# Altium footprint library PcbLib.PcbLib: 38 footprints (part 2 of 3)
Each footprint in its own frame and in the unit in brackets; x right, y up, seen from the top. Pads: shape width x height; smd on the part's side, far side on the other; paste and mask are expansions set on the pad; w line width, h text height; cw(c..) or ccw(c..) is an arc to the next point about the centre after c.
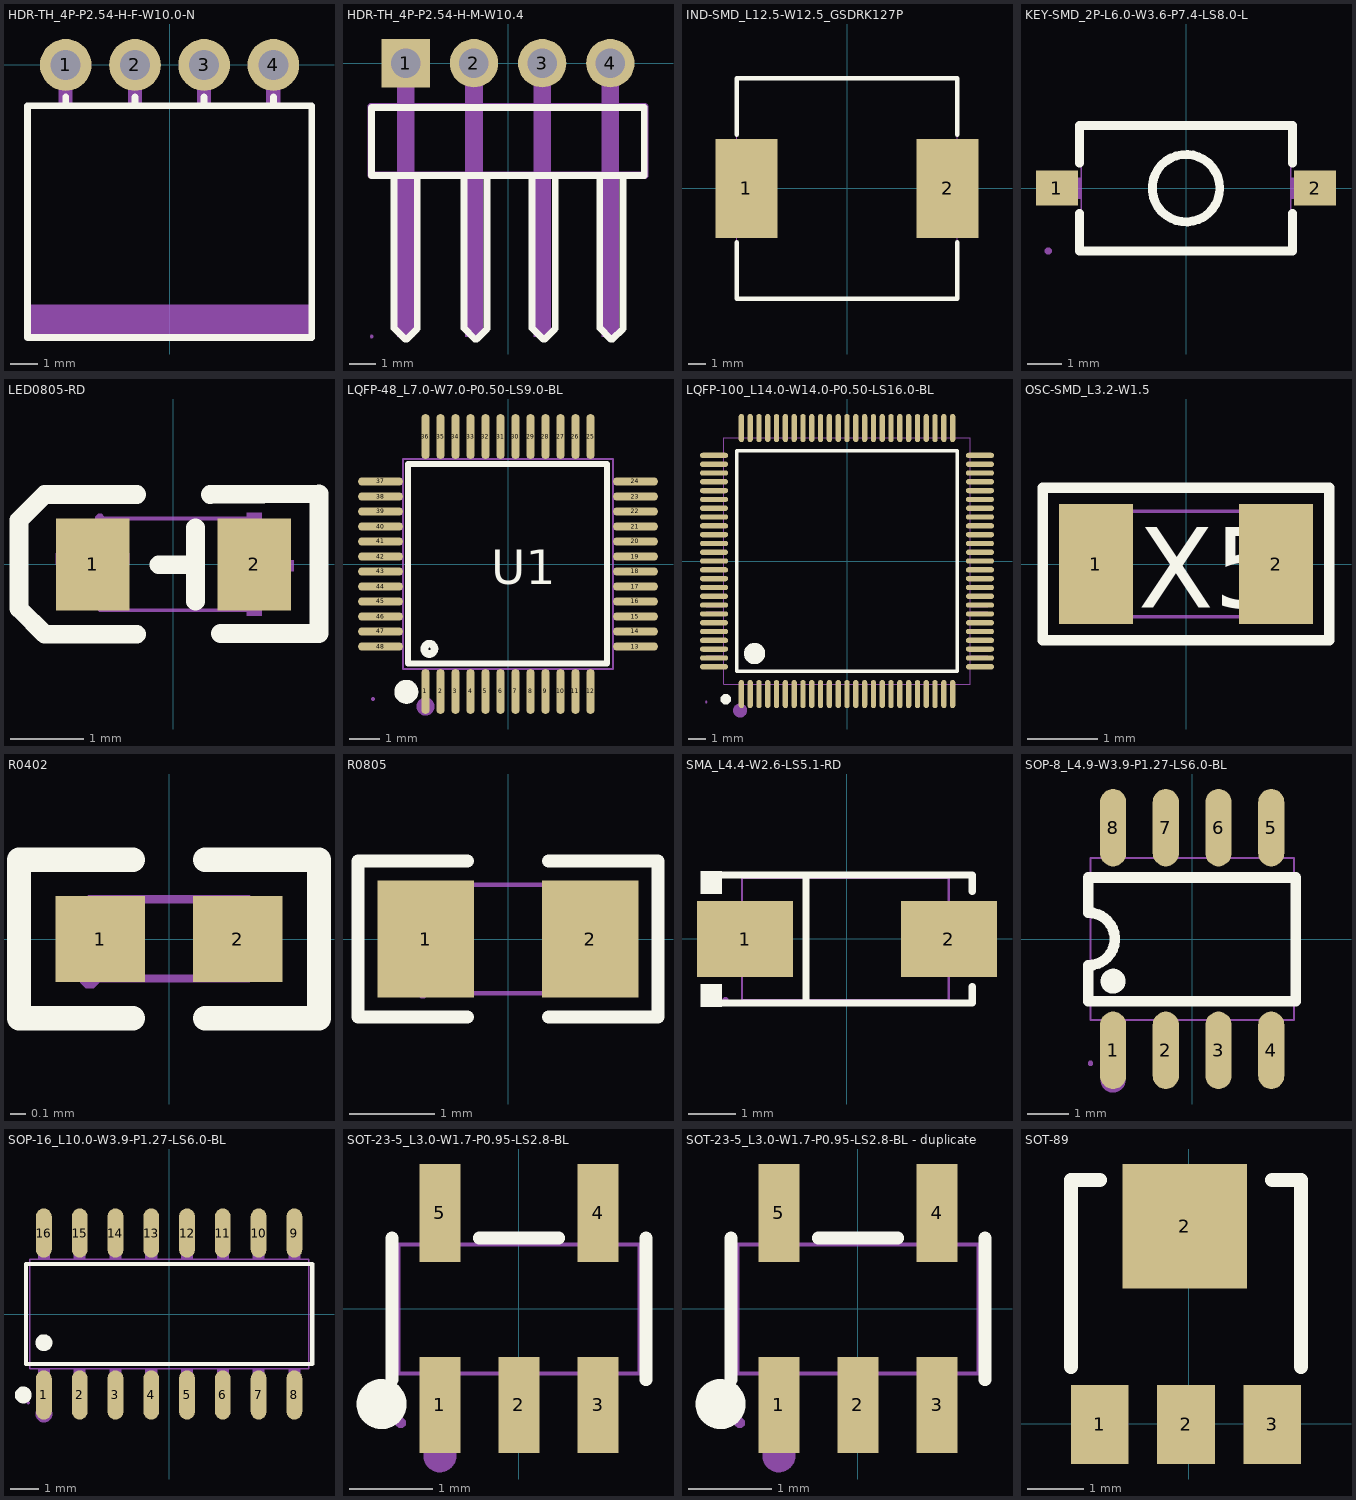
[diagram p1: the footprints below, top view; thin cyan lines are the x and y axes]

## HDR-TH_4P-P2.54-H-F-W10.0-N [mm]
pads (4):
  round 1.9 hole 1.1 paste+0 mask+0.05: 1(-3.81,0) 2(-1.27,0) 3(1.27,0) 4(3.81,0)
Top Overlay:
  lines w0.254: -3.81,-1.5 -3.81,-1.181 ; -1.27,-1.5 -1.27,-1.181 ; 1.27,-1.5 1.27,-1.181 ; 3.81,-1.5 3.81,-1.181 ; -5.22,-10 5.22,-10 5.22,-1.5 -5.22,-1.5 -5.22,-10
Mechanical 6:
  region: -5.3,-8.8 5.3,-8.8 5.3,-10 -5.3,-10 -5.3,-9.4
Mechanical 15:
  region: -5.22,-10 -5.22,-9.975 -5.255,-9.94 -5.305,-9.94 -5.34,-9.975 -5.34,-10 -5.34,-10.025 -5.305,-10.06 -5.255,-10.06 -5.22,-10.025 -5.22,-10
  region: 3.56,0.25 4.06,0.25 4.06,-0.25 3.56,-0.25
  region: 1.02,0.25 1.52,0.25 1.52,-0.25 1.02,-0.25
  region: -1.52,0.25 -1.02,0.25 -1.02,-0.25 -1.52,-0.25
  region: -4.06,0.25 -3.56,0.25 -3.56,-0.25 -4.06,-0.25
  region: -4.062,-1.555 -4.062,0.245 -3.562,0.245 -3.562,-1.555
  region: -1.522,-1.555 -1.522,0.245 -1.022,0.245 -1.022,-1.555
  region: 1.018,-1.555 1.018,0.245 1.518,0.245 1.518,-1.555
  region: 3.558,-1.555 3.558,0.245 4.058,0.245 4.058,-1.555
  lines w0.051: -5.28,-10 -5.28,-1.5 5.28,-1.5 5.28,-10 -5.28,-10

## HDR-TH_4P-P2.54-H-M-W10.4 [mm]
pads (4):
  rect 1.8x1.8 hole 1.1: 1(-3.81,0)
  round 1.8 hole 1.1: 2(-1.27,0) 3(1.27,0) 4(3.81,0)
Top Overlay:
  lines w0.254: -5.09,-1.699 -5.09,-4.181 5.07,-4.181 5.07,-1.651 -5.09,-1.651 ; -3.84,-10.273 -4.244,-9.869 ; -3.764,-10.273 -3.383,-9.892 ; -1.644,-4.273 -1.644,-9.869 -1.24,-10.273 ; -1.164,-10.273 -0.783,-9.892 -0.783,-4.273 ; 1.299,-10.273 0.895,-9.869 ; 1.375,-10.273 1.756,-9.892 ; 3.417,-4.273 3.417,-9.869 3.821,-10.273 ; 3.897,-10.273 4.278,-9.892 4.278,-4.273 ; -4.244,-9.869 -4.244,-4.273 -4.244,-9.869 ; -3.383,-9.892 -3.383,-4.273 -3.383,-9.892 ; 0.895,-9.869 0.895,-4.273 0.895,-9.869 ; 1.756,-9.892 1.756,-4.273 1.756,-9.892
Mechanical 6:
  region: -4.973,-1.63 -4.973,-4.053 5.1,-4.053 5.153,-4.053 5.227,-4.127 5.227,-4.233 5.153,-4.307 5.1,-4.307 -5.1,-4.307 -5.125,-4.307 -5.172,-4.288 -5.208,-4.252 -5.227,-4.205 -5.227,-4.18 -5.227,-1.63 -5.227,-1.577 -5.153,-1.503 -5.047,-1.503 -4.973,-1.577 -4.973,-1.63
  region: 4.969,-4.177 4.969,-1.754 -5.104,-1.754 -5.156,-1.754 -5.231,-1.68 -5.231,-1.574 -5.156,-1.5 -5.104,-1.5 5.096,-1.5 5.122,-1.5 5.168,-1.519 5.204,-1.555 5.223,-1.602 5.223,-1.627 5.223,-4.177 5.223,-4.23 5.149,-4.304 5.044,-4.304 4.969,-4.23 4.969,-4.177
Mechanical 15:
  region: -5.02,-10.18 -5.02,-10.155 -5.055,-10.12 -5.105,-10.12 -5.14,-10.155 -5.14,-10.18 -5.14,-10.205 -5.105,-10.24 -5.055,-10.24 -5.02,-10.205 -5.02,-10.18
  region: -4.13,0.32 -3.49,0.32 -3.49,-0.32 -4.13,-0.32
  region: -1.59,0.32 -0.95,0.32 -0.95,-0.32 -1.59,-0.32
  region: 0.95,0.32 1.59,0.32 1.59,-0.32 0.95,-0.32
  region: 3.49,0.32 4.13,0.32 4.13,-0.32 3.49,-0.32
  region: 3.49,0.32 3.49,-10.18 4.13,-10.18 4.13,0.32
  region: 0.95,0.32 0.95,-10.18 1.59,-10.18 1.59,0.32
  region: -1.59,0.32 -1.59,-10.18 -0.95,-10.18 -0.95,0.32
  region: -4.13,0.32 -4.13,-10.18 -3.49,-10.18 -3.49,0.32
  lines w0.051: -5.08,-4.18 5.08,-4.18 5.08,-1.64 -5.08,-1.64 -5.08,-4.18

## IND-SMD_L12.5-W12.5_GSDRK127P [mm]
pads (2):
  rect 3.5x5.6 smd: 1(-5.687,0) 2(5.687,0)
Top Overlay:
  lines w0.254: -6.25,-3.031 -6.25,-6.25 6.25,-6.25 6.25,-3.031 ; -6.25,3.031 -6.25,6.25 6.25,6.25 ; 6.25,3.031 6.25,6.25 ; 6.25,6.25 6.25,6.25
Mechanical 15:
  region: 4.25,2.5 6.25,2.5 6.25,-2.5 4.25,-2.5
  region: -6.25,2.5 -4.25,2.5 -4.25,-2.5 -6.25,-2.5
  region: -6.19,-6.25 -6.19,-6.225 -6.225,-6.19 -6.275,-6.19 -6.31,-6.225 -6.31,-6.25 -6.31,-6.275 -6.275,-6.31 -6.225,-6.31 -6.19,-6.275 -6.19,-6.25
  lines w0.051: -6.25,-6.25 6.25,-6.25 6.25,6.25 -6.25,6.25 -6.25,-6.25

## KEY-SMD_2P-L6.0-W3.6-P7.4-LS8.0-L [mm]
pads (2):
  rect 1.2x1 smd: 1(-3.7,0) 2(3.7,0)
Top Overlay:
  circle w0.254: c0,0 r0.967
  lines w0.254: -3.048,-0.725 -3.048,-1.8 0,-1.8 3.048,-1.8 3.048,-0.725 ; -3.048,0.725 -3.048,1.8 0,1.8 3.048,1.8 3.048,0.725
Mechanical 15:
  region: -4,-0.3 -4,0.3 -3.5,0.3 -3.5,-0.3
  region: -3.51,-0.3 -3.51,0.3 -2.99,0.3 -2.99,-0.3
  region: 3.5,-0.3 3.5,0.3 4,0.3 4,-0.3
  region: 2.99,-0.3 2.99,0.3 3.51,0.3 3.51,-0.3
  region: -3.85,-1.8 -3.851,-1.759 -3.909,-1.702 -3.991,-1.702 -4.049,-1.759 -4.05,-1.8 -4.049,-1.841 -3.991,-1.898 -3.909,-1.898 -3.851,-1.841 -3.85,-1.8
  lines w0.051: -3,-1.85 3,-1.85 3,1.85 -3,1.85 -3,-1.85

## LED0805-RD [mm]
pads (2):
  rect 1x1.25 smd paste+0 mask+0.051: 1(-1.1,0) 2(1.1,0)
Top Overlay:
  lines w0.254: -0.5,-0.95 -1.75,-0.95 ; -0.5,0.95 -1.75,0.95 ; -0.2,-0.005 0.3,-0.005 ; 0.3,-0.5 0.3,0.5 ; 0.5,0.95 1.98,0.96 1.98,-0.94 0.64,-0.94 ; -1.75,-0.95 -1.75,-0.95 ; -1.75,-0.95 -2.1,-0.6 -2.1,0.6 -1.75,0.95 ; -1.75,0.95 -1.75,0.95
Mechanical 6:
  region: 1,0.7 1.2,0.7 1.2,-0.7 1,-0.7
  region: 0.635,-0.094 1.635,-0.094 1.635,0.056 0.635,0.056
  region: -1.6,0 -0.6,0 -0.6,0.15 -1.6,0.15
Mechanical 15:
  region: -0.94,0.625 -0.94,0.65 -0.975,0.685 -1.025,0.685 -1.06,0.65 -1.06,0.625 -1.06,0.6 -1.025,0.565 -0.975,0.565 -0.94,0.6 -0.94,0.625
  region: 1,-0.625 0.65,-0.625 0.65,0.625 1,0.625
  region: -0.65,-0.625 -1,-0.625 -1,0.625 -0.65,0.625
  lines w0.051: -1,-0.625 -1,0.625 1,0.625 1,-0.625 -1,-0.625

## LQFP-48_L7.0-W7.0-P0.50-LS9.0-BL [mm]
pads (48):
  oval 0.27x1.5 smd paste+0 mask+0.05: 1(-2.75,-4.25) 2(-2.25,-4.25) 3(-1.75,-4.25) 4(-1.25,-4.25) 5(-0.75,-4.25) 6(-0.25,-4.25) 7(0.25,-4.25) 8(0.75,-4.25) 9(1.25,-4.25) 10(1.75,-4.25) 11(2.25,-4.25) 12(2.75,-4.25) 25(2.75,4.25) 26(2.25,4.25) 27(1.75,4.25) 28(1.25,4.25) 29(0.75,4.25) 30(0.25,4.25) 31(-0.25,4.25) 32(-0.75,4.25) 33(-1.25,4.25) 34(-1.75,4.25) 35(-2.25,4.25) 36(-2.75,4.25)
  oval 1.5x0.27 smd paste+0 mask+0.05: 13(4.25,-2.75) 14(4.25,-2.25) 15(4.25,-1.75) 16(4.25,-1.25) 17(4.25,-0.75) 18(4.25,-0.25) 19(4.25,0.25) 20(4.25,0.75) 21(4.25,1.25) 22(4.25,1.75) 23(4.25,2.25) 24(4.25,2.75) 37(-4.25,2.75) 38(-4.25,2.25) 39(-4.25,1.75) 40(-4.25,1.25) 41(-4.25,0.75) 42(-4.25,0.25) 43(-4.25,-0.25) 44(-4.25,-0.75) 45(-4.25,-1.25) 46(-4.25,-1.75) 47(-4.25,-2.25) 48(-4.25,-2.75)
Top Overlay:
  circle w0.254: c-2.62,-2.83 r0.17
  lines w0.2: -2.896,3.34 3.302,3.34 3.302,-3.315 -3.327,-3.315 -3.327,3.34 -2.565,3.34
  lines w0.4: -3.39,-4.06 ccw(c-3.389,-4.26) -3.387,-4.06
  text "U1" at -0.552,-0.673 h1.14
Mechanical 6:
  circle w0.3: c-2.75,-4.75 r0.15
Mechanical 15:
  drawing of 101 lines, arcs and shapes, not listed

## LQFP-100_L14.0-W14.0-P0.50-LS16.0-BL [mm]
pads (100):
  oval 0.3x1.6 smd paste-100 mask+0.051: 1(-6,-7.55) 2(-5.5,-7.55) 3(-5,-7.55) 4(-4.5,-7.55) 5(-4,-7.55) 6(-3.5,-7.55) 7(-3,-7.55) 8(-2.5,-7.55) 9(-2,-7.55) 10(-1.5,-7.55) 11(-1,-7.55) 12(-0.5,-7.55) 13(0,-7.55) 14(0.5,-7.55) 15(1,-7.55) 16(1.5,-7.55) 17(2,-7.55) 18(2.5,-7.55) 19(3,-7.55) 20(3.5,-7.55) 21(4,-7.55) 22(4.5,-7.55) 23(5,-7.55) 24(5.5,-7.55) 25(6,-7.55) 51(6,7.55) 52(5.5,7.55) 53(5,7.55) 54(4.5,7.55) 55(4,7.55) 56(3.5,7.55) 57(3,7.55) 58(2.5,7.55) 59(2,7.55) 60(1.5,7.55) 61(1,7.55) 62(0.5,7.55) 63(0,7.55) 64(-0.5,7.55) 65(-1,7.55) 66(-1.5,7.55) 67(-2,7.55) 68(-2.5,7.55) 69(-3,7.55) 70(-3.5,7.55) 71(-4,7.55) 72(-4.5,7.55) 73(-5,7.55) 74(-5.5,7.55) 75(-6,7.55)
  oval 1.6x0.3 smd paste-100 mask+0.051: 26(7.55,-6) 27(7.55,-5.5) 28(7.55,-5) 29(7.55,-4.5) 30(7.55,-4) 31(7.55,-3.5) 32(7.55,-3) 33(7.55,-2.5) 34(7.55,-2) 35(7.55,-1.5) 36(7.55,-1) 37(7.55,-0.5) 38(7.55,0) 39(7.55,0.5) 40(7.55,1) 41(7.55,1.5) 42(7.55,2) 43(7.55,2.5) 44(7.55,3) 45(7.55,3.5) 46(7.55,4) 47(7.55,4.5) 48(7.55,5) 49(7.55,5.5) 50(7.55,6) 76(-7.55,6) 77(-7.55,5.5) 78(-7.55,5) 79(-7.55,4.5) 80(-7.55,4) 81(-7.55,3.5) 82(-7.55,3) 83(-7.55,2.5) 84(-7.55,2) 85(-7.55,1.5) 86(-7.55,1) 87(-7.55,0.5) 88(-7.55,0) 89(-7.55,-0.5) 90(-7.55,-1) 91(-7.55,-1.5) 92(-7.55,-2) 93(-7.55,-2.5) 94(-7.55,-3) 95(-7.55,-3.5) 96(-7.55,-4) 97(-7.55,-4.5) 98(-7.55,-5) 99(-7.55,-5.5) 100(-7.55,-6)
Top Overlay:
  lines w0.2: -6.25,-6.25 -6.25,6.25 6.25,6.25 6.25,-6.25 -6.25,-6.25
  lines w0.3: -6.883,-7.696 ccw(c-6.882,-7.846) -6.881,-7.696
  lines w0.6: -5.25,-4.95 ccw(c-5.248,-5.25) -5.245,-4.95
Top Paste:
  drawing of 100 lines, arcs and shapes, not listed
Mechanical 6:
  circle w0.4: c-6.071,-8.484 r0.2
Mechanical 15:
  drawing of 205 lines, arcs and shapes, not listed

## OSC-SMD_L3.2-W1.5 [mm]
pads (2):
  rect 1.05x1.7 smd: 1(-1.275,0) 2(1.275,0)
Top Overlay:
  lines w0.152: -2.029,-1.079 2.029,-1.079 2.029,1.079 -2.029,1.079 -2.029,-1.079
  text "X5" at -0.676,-0.622 h1.14
Mechanical 15:
  region: 0.85,-0.75 0.85,0.75 1.5,0.75 1.5,-0.75
  region: -0.85,-0.75 -0.85,0.75 -1.5,0.75 -1.5,-0.75
  region: -1.6,-0.81 -1.575,-0.81 -1.541,-0.775 -1.541,-0.726 -1.575,-0.691 -1.6,-0.69 -1.624,-0.691 -1.659,-0.726 -1.659,-0.775 -1.624,-0.81 -1.6,-0.81
  lines w0.051: -1.6,-0.75 1.6,-0.75 1.6,0.75 -1.6,0.75 -1.6,-0.75

## R0402 [mm]
pads (2):
  rect 0.566x0.54 smd paste-100 mask+0.051: 1(-0.433,0) 2(0.433,0)
Top Overlay:
  lines w0.152: -0.226,-0.499 -0.944,-0.499 -0.944,0.499 -0.226,0.499 ; 0.226,-0.499 0.944,-0.499 0.944,0.499 0.226,0.499
Top Paste:
  region: -0.135,-0.23 -0.135,0.23 -0.175,0.27 -0.676,0.27 -0.716,0.23 -0.716,-0.23 -0.676,-0.27 -0.175,-0.27
  region: 0.135,-0.23 0.135,0.23 0.175,0.27 0.676,0.27 0.716,0.23 0.716,-0.23 0.676,-0.27 0.175,-0.27
Mechanical 15:
  region: -0.249,0.25 -0.249,-0.25 -0.499,-0.25 -0.499,0.25
  region: 0.251,-0.25 0.251,0.25 0.501,0.25 0.501,-0.25
  region: -0.44,-0.25 -0.44,-0.225 -0.475,-0.19 -0.525,-0.19 -0.56,-0.225 -0.56,-0.25 -0.56,-0.275 -0.525,-0.31 -0.475,-0.31 -0.44,-0.275 -0.44,-0.25
  lines w0.051: -0.5,-0.25 0.5,-0.25 0.5,0.25 -0.5,0.25 -0.5,-0.25

## R0805 [mm]
pads (2):
  rect 1.133x1.377 smd paste-100 mask+0.051: 1(-0.966,0) 2(0.966,0)
Top Overlay:
  lines w0.152: -0.476,-0.917 -1.761,-0.917 -1.761,0.917 -0.476,0.917 ; 0.476,-0.917 1.761,-0.917 1.761,0.917 0.476,0.917
Top Paste:
  region: -1.7,-0.64 -1.7,0.64 -1.65,0.69 -0.5,0.69 -0.45,0.64 -0.445,0.23 -0.895,0.23 -0.895,-0.22 -0.455,-0.22 -0.45,-0.64 -0.5,-0.69 -1.65,-0.69
  region: 0.45,-0.64 0.45,-0.22 0.895,-0.22 0.895,0.23 0.455,0.23 0.45,0.64 0.5,0.69 1.65,0.69 1.7,0.64 1.7,-0.64 1.65,-0.69 0.5,-0.69
Mechanical 15:
  region: -1.06,-0.637 -1.06,-0.662 -1.025,-0.698 -0.975,-0.698 -0.94,-0.662 -0.94,-0.638 -0.94,-0.613 -0.975,-0.578 -1.025,-0.577 -1.06,-0.613 -1.06,-0.637
  region: -1,-0.637 -1,0.637 -0.6,0.637 -0.6,-0.637
  region: 1,-0.637 1,0.637 0.6,0.637 0.6,-0.637
  lines w0.051: -1,-0.637 -1,0.637 1,0.637 1,-0.637 -1,-0.637

## SMA_L4.4-W2.6-LS5.1-RD [mm]
pads (2):
  rect 2.046x1.62 smd: 1(-2.169,0) 2(2.169,0)
Top Overlay:
  region: -2.661,1.44 -2.661,0.962 -3.118,0.962 -3.118,1.44
  region: -2.661,-1.44 -2.661,-0.962 -3.118,-0.962 -3.118,-1.44
  lines w0.152: -2.737,-1.364 2.666,-1.364 2.666,-1.013 ; -2.737,1.364 2.666,1.364 2.666,1.013 ; -0.875,-1.364 -0.875,1.364
Mechanical 6:
  region: -2.467,-0.097 -2.467,0.097 -1.695,0.097 -1.695,-0.097
  region: 2.396,-0.097 2.396,0.097 1.624,0.097 1.624,-0.097
  region: 2.107,-0.644 2.107,0.644 1.914,0.644 1.914,-0.644
Mechanical 15:
  region: -2.584,-0.725 -2.584,0.725 -1.434,0.725 -1.434,-0.725
  region: 2.522,0.725 2.522,-0.725 1.372,-0.725 1.372,0.725
  region: -2.524,-1.3 -2.524,-1.275 -2.559,-1.24 -2.609,-1.24 -2.644,-1.275 -2.644,-1.3 -2.644,-1.325 -2.609,-1.36 -2.559,-1.36 -2.524,-1.325 -2.524,-1.3
  lines w0.051: -2.236,-1.3 2.164,-1.3 2.164,1.3 -2.236,1.3 -2.236,-1.3

## SOP-8_L4.9-W3.9-P1.27-LS6.0-BL [mm]
pads (8):
  oval 0.63x1.865 smd: 1(-1.905,-2.682) 2(-0.635,-2.682) 3(0.635,-2.682) 4(1.905,-2.682) 5(1.905,2.682) 6(0.635,2.682) 7(-0.635,2.682) 8(-1.905,2.682)
Top Overlay:
  circle w0.3: c-1.905,-1.016 r0.15
  lines w0.254: -2.5,-1.498 2.5,-1.498 2.5,1.482 -2.5,1.482 -2.499,0.635 cw(c-2.5,0) -2.5,-0.635 -2.5,-1.498
Mechanical 6:
  circle w0.3: c-1.905,-3.4 r0.15
Mechanical 15:
  region: 2.115,-2.232 1.695,-2.232 1.695,-1.942 2.115,-1.942
  region: 0.845,-2.232 0.425,-2.232 0.425,-1.942 0.845,-1.942
  region: -0.425,-2.232 -0.845,-2.232 -0.845,-1.942 -0.425,-1.942
  region: -1.695,-2.232 -2.115,-2.232 -2.115,-1.942 -1.695,-1.942
  region: -2.115,2.232 -1.695,2.232 -1.695,1.942 -2.115,1.942
  region: -0.845,2.232 -0.425,2.232 -0.425,1.942 -0.845,1.942
  region: 0.425,2.232 0.845,2.232 0.845,1.942 0.425,1.942
  region: 1.695,2.232 2.115,2.232 2.115,1.942 1.695,1.942
  region: -2.115,-3 -2.115,-2.165 -1.695,-2.165 -1.695,-3
  region: -0.845,-3 -0.845,-2.165 -0.425,-2.165 -0.425,-3
  region: 0.425,-3 0.425,-2.165 0.845,-2.165 0.845,-3
  region: 1.695,-3 1.695,-2.165 2.115,-2.165 2.115,-3
  region: -2.115,2.165 -2.115,3 -1.695,3 -1.695,2.165
  region: -0.845,2.165 -0.845,3 -0.425,3 -0.425,2.165
  region: 0.425,2.165 0.425,3 0.845,3 0.845,2.165
  region: 1.695,2.165 1.695,3 2.115,3 2.115,2.165
  region: -2.39,-3 -2.39,-2.975 -2.425,-2.94 -2.475,-2.94 -2.51,-2.975 -2.51,-3 -2.51,-3.025 -2.475,-3.06 -2.425,-3.06 -2.39,-3.025 -2.39,-3
  lines w0.051: -2.45,-1.95 2.45,-1.95 2.45,1.95 -2.45,1.95 -2.45,-1.95

## SOP-16_L10.0-W3.9-P1.27-LS6.0-BL [mm]
pads (16):
  oval 0.56x1.745 smd paste+0 mask+0.051: 1(-4.445,-2.872) 2(-3.175,-2.872) 3(-1.905,-2.872) 4(-0.635,-2.872) 5(0.635,-2.872) 6(1.905,-2.872) 7(3.175,-2.872) 8(4.445,-2.872) 9(4.445,2.872) 10(3.175,2.872) 11(1.905,2.872) 12(0.635,2.872) 13(-0.635,2.872) 14(-1.905,2.872) 15(-3.175,2.872) 16(-4.445,2.872)
Top Overlay:
  circle w0.3: c-5.177,-2.872 r0.15
  circle w0.3: c-4.445,-1.019 r0.15
  lines w0.152: -5.076,-1.771 5.076,-1.771 5.076,1.771 -5.076,1.771 -5.076,-1.771
Mechanical 6:
  circle w0.3: c-4.445,-3.55 r0.15
Mechanical 15:
  drawing of 37 lines, arcs and shapes, not listed

## SOT-23-5_L3.0-W1.7-P0.95-LS2.8-BL [mm]
pads (5):
  rect 0.49x1.157 smd: 1(-0.95,-1.154) 2(0,-1.154) 3(0.95,-1.154)
  rect 0.49x1.175 smd: 4(0.95,1.154) 5(-0.95,1.154)
Top Overlay:
  circle w0.3: c-1.651,-1.143 r0.15
  lines w0.152: -1.526,-0.851 -1.526,0.851 ; -0.476,0.851 0.476,0.851 ; 1.526,-0.851 1.526,0.851
Mechanical 6:
  circle w0.2: c-0.95,-1.763 r0.1
Mechanical 15:
  region: -1.36,-1.37 -1.36,-1.345 -1.395,-1.31 -1.445,-1.31 -1.48,-1.345 -1.48,-1.37 -1.48,-1.395 -1.445,-1.43 -1.395,-1.43 -1.36,-1.395 -1.36,-1.37
  region: -1.125,0.74 -1.125,1.01 -0.775,1.01 -0.775,0.74
  region: -1.125,1 -1.125,1.4 -0.775,1.4 -0.775,1
  region: 0.775,0.74 0.775,1.01 1.125,1.01 1.125,0.74
  region: 0.775,1 0.775,1.4 1.125,1.4 1.125,1
  region: 0.775,-1.01 0.775,-0.74 1.125,-0.74 1.125,-1.01
  region: 0.775,-1.4 0.775,-1 1.125,-1 1.125,-1.4
  region: -0.175,-1.01 -0.175,-0.74 0.175,-0.74 0.175,-1.01
  region: -0.175,-1.4 -0.175,-1 0.175,-1 0.175,-1.4
  region: -1.125,-1.01 -1.125,-0.74 -0.775,-0.74 -0.775,-1.01
  region: -1.125,-1.4 -1.125,-1 -0.775,-1 -0.775,-1.4
  lines w0.051: -1.45,-0.775 1.45,-0.775 1.45,0.775 -1.45,0.775 -1.45,-0.775

## SOT-23-5_L3.0-W1.7-P0.95-LS2.8-BL - duplicate [mm]
pads (5):
  rect 0.49x1.157 smd: 1(-0.95,-1.154) 2(0,-1.154) 3(0.95,-1.154)
  rect 0.49x1.175 smd: 4(0.95,1.154) 5(-0.95,1.154)
Top Overlay:
  circle w0.3: c-1.651,-1.143 r0.15
  lines w0.152: -1.526,-0.851 -1.526,0.851 ; -0.476,0.851 0.476,0.851 ; 1.526,-0.851 1.526,0.851
Mechanical 6:
  circle w0.2: c-0.95,-1.763 r0.1
Mechanical 15:
  region: -1.125,-1.4 -1.125,-1 -0.775,-1 -0.775,-1.4
  region: -1.125,-1.01 -1.125,-0.74 -0.775,-0.74 -0.775,-1.01
  region: -0.175,-1.4 -0.175,-1 0.175,-1 0.175,-1.4
  region: -0.175,-1.01 -0.175,-0.74 0.175,-0.74 0.175,-1.01
  region: 0.775,-1.4 0.775,-1 1.125,-1 1.125,-1.4
  region: 0.775,-1.01 0.775,-0.74 1.125,-0.74 1.125,-1.01
  region: 0.775,1 0.775,1.4 1.125,1.4 1.125,1
  region: 0.775,0.74 0.775,1.01 1.125,1.01 1.125,0.74
  region: -1.125,1 -1.125,1.4 -0.775,1.4 -0.775,1
  region: -1.125,0.74 -1.125,1.01 -0.775,1.01 -0.775,0.74
  region: -1.36,-1.37 -1.36,-1.345 -1.395,-1.31 -1.445,-1.31 -1.48,-1.345 -1.48,-1.37 -1.48,-1.395 -1.445,-1.43 -1.395,-1.43 -1.36,-1.395 -1.36,-1.37
  lines w0.051: -1.45,-0.775 -1.45,0.775 1.45,0.775 1.45,-0.775 -1.45,-0.775

## SOT-89 [mil]
pads (4):
  rect 40x55 smd paste+0 mask+4: 1(-61.81,-0.58) 2(-1.81,-0.58) 3(58.19,-0.58)
  rect 86.61x86.61 smd paste+0 mask+4: 2(-2.76,137.22)
Top Overlay:
  lines w10: -81.82,39.43 -81.82,169.43 -61.81,169.43 ; 58.19,169.43 78.18,169.43 78.18,39.43